# Altium footprint library SW_SLW-1276864-4A-D.PcbLib: 1 footprints
Each footprint in its own frame and in the unit in brackets; x right, y up, seen from the top. Pads: shape width x height; smd on the part's side, far side on the other; paste and mask are expansions set on the pad; w line width, h text height; cw(c..) or ccw(c..) is an arc to the next point about the centre after c.
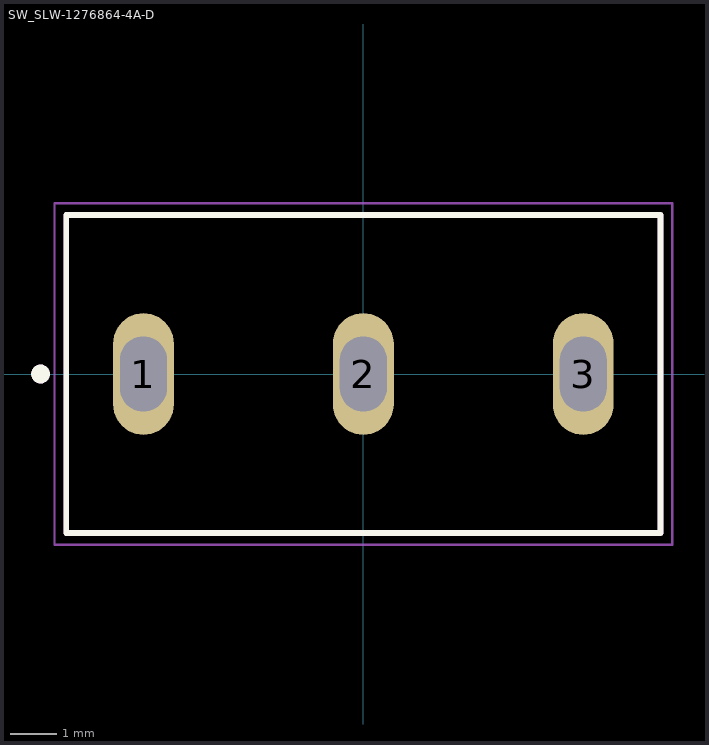
[diagram p0: the footprint, top view; thin cyan lines are the x and y axes]

## SW_SLW-1276864-4A-D [mm]
height 10.6
pads (3):
  oval 1.3x2.6 hole 1 slot 1.6 at 90 deg: 1(-4.7,0) 2(0,0) 3(4.7,0)
Top Overlay:
  circle w0.2: c-6.9,0 r0.1
  lines w0.127: -6.35,-3.4 -6.35,3.4 6.35,3.4 6.35,-3.4 -6.35,-3.4
Assembly Top:
  circle w0.2: c-6.9,0 r0.1
  lines w0.127: -6.35,-3.4 -6.35,3.4 6.35,3.4 6.35,-3.4 -6.35,-3.4
Courtyard Top:
  lines w0.05: -6.6,-3.65 -6.6,3.65 6.6,3.65 6.6,-3.65 -6.6,-3.65